# Altium footprint library PCB - LEADLESS - DFN - DIODES U-DFN2020-6E.PCBLIB: 1 footprints
Each footprint in its own frame and in the unit in brackets; x right, y up, seen from the top. Pads: shape width x height; smd on the part's side, far side on the other; paste and mask are expansions set on the pad; w line width, h text height; cw(c..) or ccw(c..) is an arc to the next point about the centre after c.
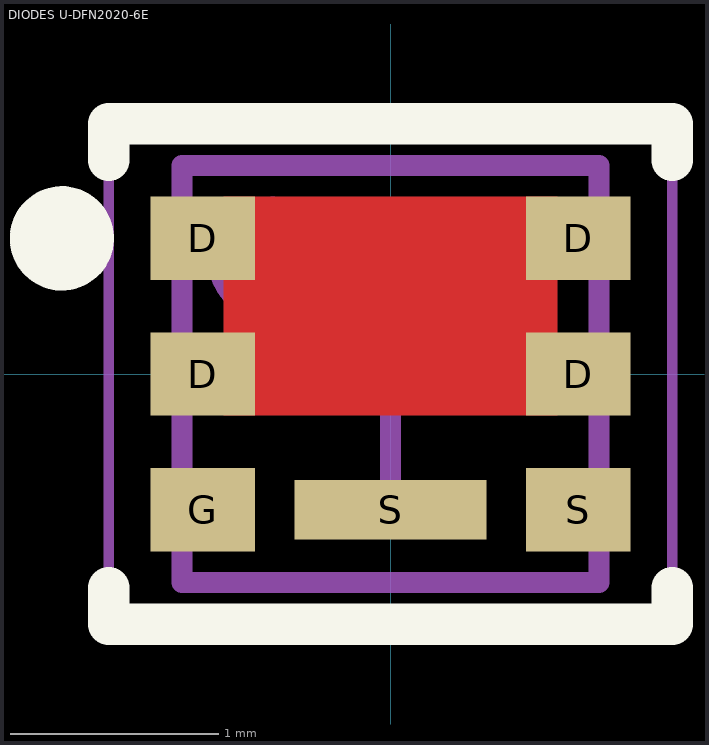
[diagram p0: the footprint, top view; thin cyan lines are the x and y axes]

## DIODES U-DFN2020-6E [mm] "U-DFN2020-6(E), 6-Leads, Body 2.00x2.00mm, Pitch 0.65mm, Thermal Pad 1.05x2.3mm, IPC High Density"
height 0.63
pads (7):
  rect 0.5x0.4 smd: D(-0.9,0) D(-0.9,0.65) D(0.9,0) D(0.9,0.65) G(-0.9,-0.65) S(0.9,-0.65)
  rect 0.92x0.285 smd: S(0,-0.65)
Top Layer:
  rectangle: -0.8,-0.2 0.8,0.85
Top Overlay:
  circle w0.25: c-1.575,0.65 r0.125
  lines w0.2: -1.35,-1.025 -1.35,-1.2 1.35,-1.2 1.35,-1.025 ; -1.35,1.025 -1.35,1.2 1.35,1.2 1.35,1.025
Mechanical 13:
  circle w0.1: c-0.575,0.55 r0.25
  lines w0.1: -1,1 1,1 1,-1 -1,-1 ; -1,-1 -1,1
Mechanical 15:
  lines w0.05: -1.35,-1.2 -1.35,1.2 1.35,1.2 1.35,-1.2 -1.35,-1.2
  lines w0.1: -0.5,0 0.5,0 ; 0,-0.5 0,0.5
3D body: height 0.63, standoff 0, extent -1,-1 1,1